# EAGLE library part LTC3851-1 (library PowerProducts)
Synchronous Step-Down Switching Regulator Controller
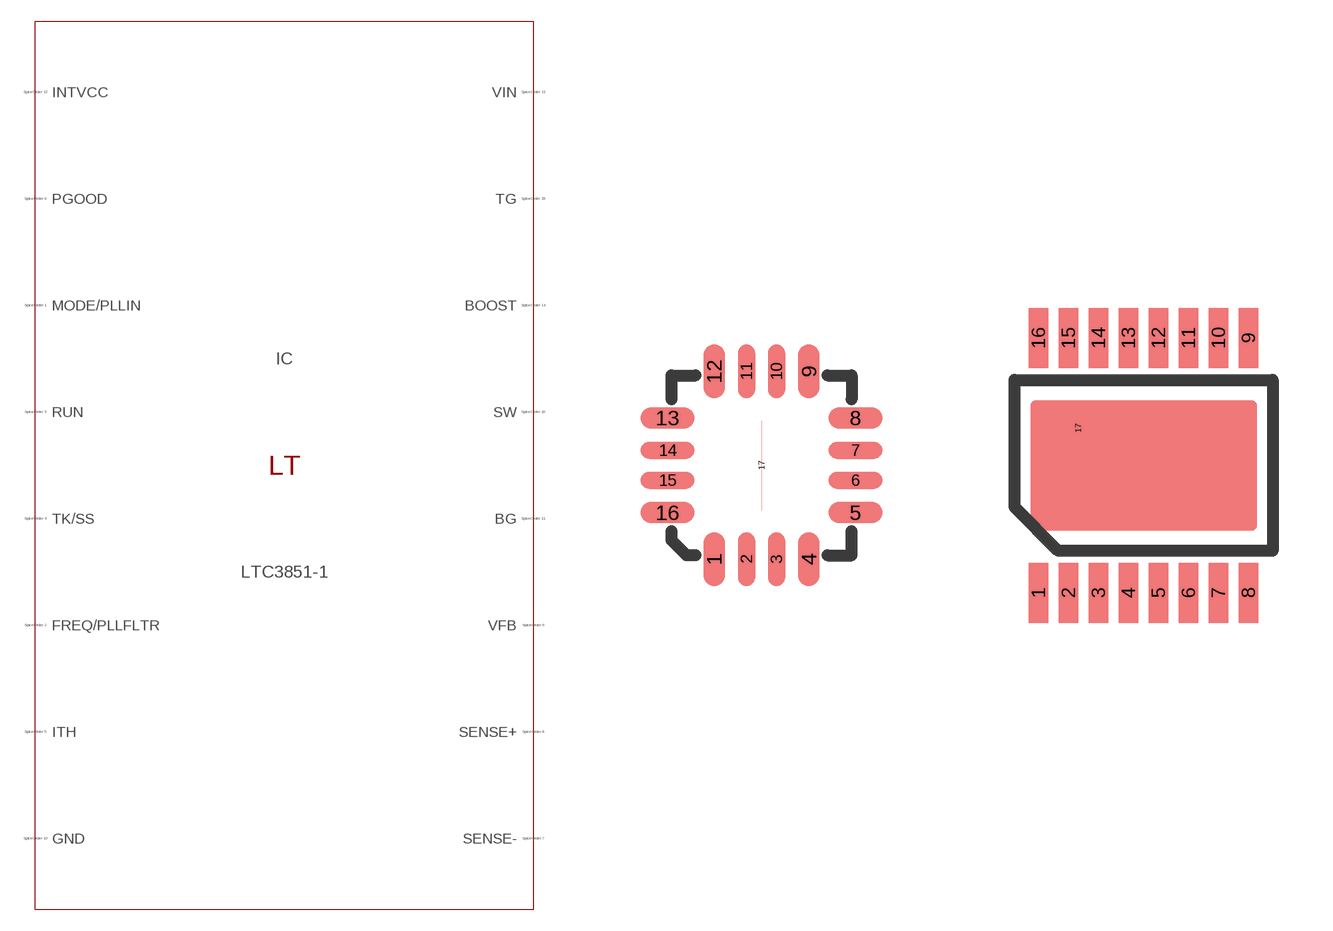
[diagram p365: symbol with the pads of QFN16(UD); footprints QFN16(UD), MSOP16(MSE)]

Designator prefix IC

## LTC3851-1UD (SPICEMODEL: LTC3851-1.sub; SPICEPREFIX: X; VALUE2: LTC3851-1)  [QFN16(UD)]
1  RUN  pas
2  TK/SS  pas
3  ITH  pas
4  VFB  pas
5  SENSE-  pas
6  SENSE+  pas
7  PGOOD  pas
8  GND  pas
9  BG  pas
10  INTVCC  pas
11  VIN  pas
12  BOOST  pas
13  TG  pas
14  SW  pas
15  MODE/PLLIN  pas
16  FREQ/PLLFLTR  pas
17  GND  pas

## LTC3851-1 (SPICEMODEL: LTC3851-1.sub; SPICEPREFIX: X; VALUE2: LTC3851-1)  [MSOP16(MSE)]
1  MODE/PLLIN  pas
2  FREQ/PLLFLTR  pas
3  RUN  pas
4  TK/SS  pas
5  ITH  pas
6  VFB  pas
7  SENSE-  pas
8  SENSE+  pas
9  PGOOD  pas
10  GND  pas
11  BG  pas
12  INTVCC  pas
13  VIN  pas
14  BOOST  pas
15  TG  pas
16  SW  pas
17  GND  pas

## Footprint QFN16(UD) (pad centres in mm)
Package generated from: QFN16(UD).asc (!PADS-POWERPCB-V9.3-BASIC! DESIGN DATABASE ASCII FILE 1.0) with :import-pads-powerpcb-v5.ulp Version 1.0.1 at 04.10.2012 14:11:23
smd 0.54 x 1.35: 1 -1.185,-2.348; 4 1.185,-2.348; 9 1.185,2.348; 12 -1.185,2.348
smd 0.42 x 1.35: 2 -0.375,-2.348; 3 0.375,-2.348; 10 0.375,2.348; 11 -0.375,2.348
smd 1.35 x 0.54: 5 2.348,-1.185; 8 2.348,1.185; 13 -2.348,1.185; 16 -2.348,-1.185
smd 1.35 x 0.42: 6 2.348,-0.375; 7 2.348,0.375; 14 -2.348,0.375; 15 -2.348,-0.375
smd 0 x 2.25: 17 0,0

## Footprint MSOP16(MSE) (pad centres in mm)
Package generated from: MSOP16(MSE).asc (!PADS-POWERPCB-V9.3-BASIC! DESIGN DATABASE ASCII FILE 1.0) with :import-pads-powerpcb-v5.ulp Version 1.0.1 at 04.10.2012 14:11:19
smd 0.495 x 1.5: 1 -2.625,-3.188; 2 -1.875,-3.188; 3 -1.125,-3.188; 4 -0.375,-3.188; 5 0.375,-3.188; 6 1.125,-3.188; 7 1.875,-3.188; 8 2.625,-3.188; 9 2.625,3.188; 10 1.875,3.188; 11 1.125,3.188; 12 0.375,3.188; 13 -0.375,3.188; 14 -1.125,3.188; 15 -1.875,3.188; 16 -2.625,3.188
smd 0 x 0.525: 17 -1.635,0.93